# Altium footprint library SMT0402.PcbLib: 5 footprints
Each footprint in its own frame and in the unit in brackets; x right, y up, seen from the top. Pads: shape width x height; smd on the part's side, far side on the other; paste and mask are expansions set on the pad; w line width, h text height; cw(c..) or ccw(c..) is an arc to the next point about the centre after c.
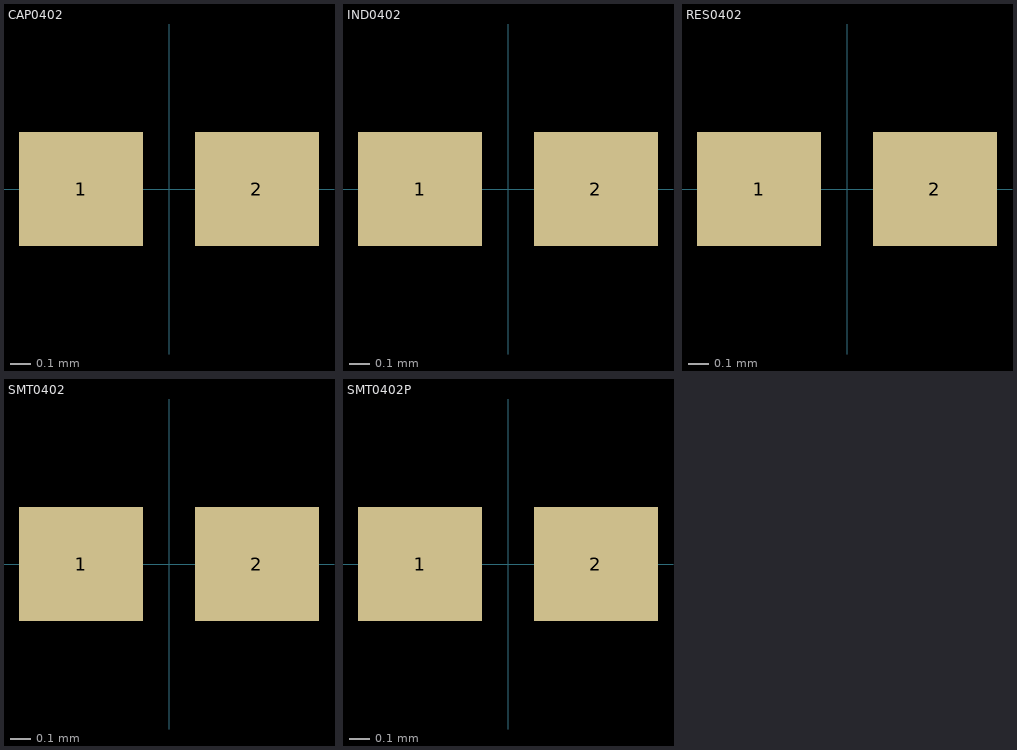
[diagram p0: the footprints below, top view; thin cyan lines are the x and y axes]

## CAP0402 [mm] "0402 foorprint SMT"
height 0.25
pads (2):
  rect 0.6x0.55 smd: 1(-0.425,0) 2(0.425,0)
3D body "CAP-0402.step": height 0.57, standoff 0, extent -0.5,-0.26 0.5,0.26

## IND0402 [mm] "0402 foorprint SMT"
height 0.25
pads (2):
  rect 0.6x0.55 smd: 1(-0.425,0) 2(0.425,0)
3D body "IND-0402.step": height 0.5, standoff 0, extent -0.5,-0.25 0.5,0.25

## RES0402 [mm] "0402 foorprint SMT"
height 0.25
pads (2):
  rect 0.6x0.55 smd: 1(-0.425,0) 2(0.425,0)
3D body "RES-0402.step": height 0.3, standoff 0, extent -0.5,-0.25 0.5,0.25

## SMT0402 [mm] "0402 foorprint SMT"
height 0.25
pads (2):
  rect 0.6x0.55 smd: 1(-0.425,0) 2(0.425,0)
3D body: height 0.25, standoff 0, extent -0.587,-0.25 0.587,0.25

## SMT0402P [mm] "0402 footprint SMT"
height 0.25
pads (2):
  rect 0.6x0.55 smd: 1(-0.425,0) 2(0.425,0)
3D body: height 0.25, standoff 0, extent -0.587,-0.25 0.587,0.25